# Altium schematic symbol library MyLib.SchLib: 47 symbols
Pins are listed as number, name and electrical type; pins without a type are passive.

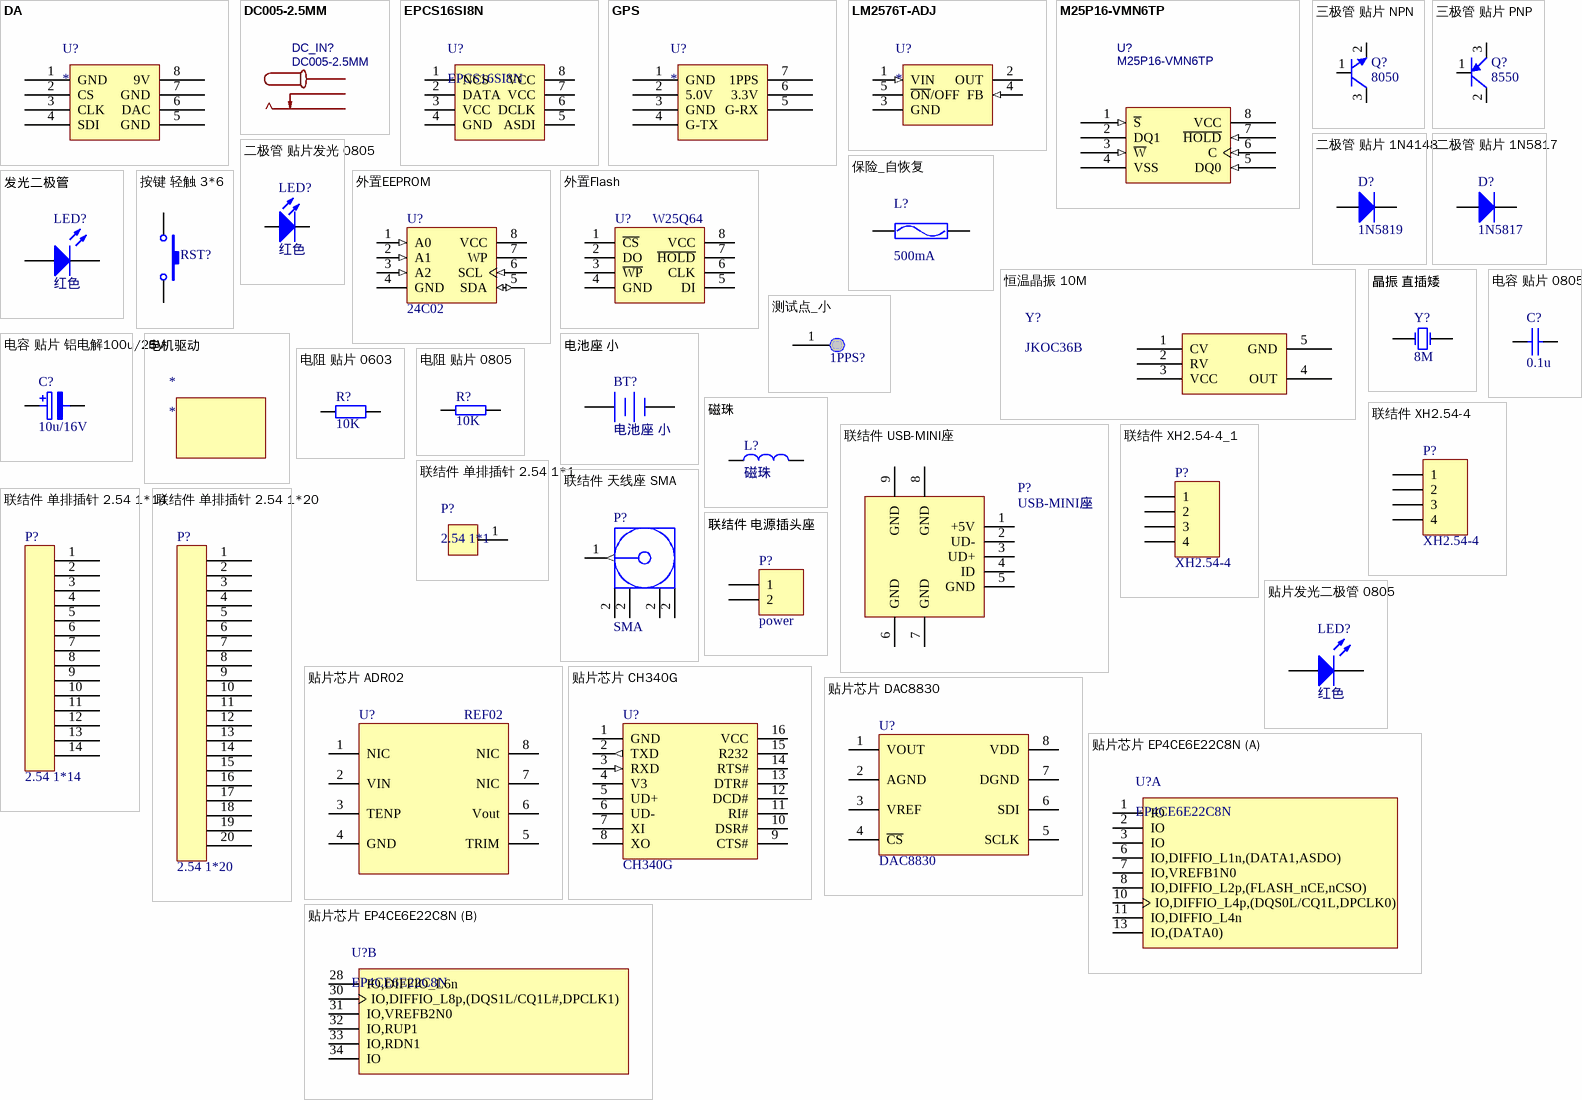
[diagram p0: symbols DA to 贴片芯片 EP4CE6E22C8N]

## DA
designator U?
footprint DA
pins: 1 GND, 2 CS, 3 CLK, 4 SDI, 5 GND, 6 DAC, 7 GND, 8 9V

## DC005-2.5MM
designator DC_IN?
BOM_Manufacturer: SOFNG(硕方); BOM_Manufacturer Part: DC005-T25; BOM_Supplier: LCSC; BOM_Supplier Part: C111573; BOM_JLCPCB Part Class: Extended Part; spicePre: D; spiceSymbolName: DC005-2.5MM
footprint DC005-2.5MM
pins: 1, 2, 3

## EPCS16SI8N
designator U?
footprint SOIC-8
pins: 1 NCS, 2 DATA, 3 VCC, 4 GND, 5 ASDI, 6 DCLK, 7 VCC, 8 VCC

## GPS
designator U?
footprint GPS
pins: 1 GND, 2 5.0V, 3 GND, 4 G-TX, 5 G-RX, 6 3.3V, 7 1PPS

## LM2576T-ADJ
designator U?
footprint TO-220
pins: 1 VIN (in), 2 OUT, 3 GND, 4 FB (in), 5 ~{ON}/OFF

## M25P16-VMN6TP
designator U?
BOM_Manufacturer: micron(镁光); Contributor: LCSC; BOM_Supplier: LCSC; BOM_Manufacturer Part: M25P16-VMN6TP; BOM_Supplier Part: C151067; BOM_JLCPCB Part Class: Extended Part; spicePre: U; spiceSymbolName: M25P16-VMN6TP
footprint SOIC-8
pins: 1 ~{S} (in), 2 DQ1, 3 ~{W} (in), 4 VSS, 5 DQ0 (in), 6 C (in), 7 ~{HOLD} (in), 8 VCC

## 三极管 贴片 NPN
designator Q?, comment 8050
NPN 8050; 名称: 贴片三极管; 封装: SOT23B; 单位: 个
footprint sot23b
pins: 1 B, 2 E, 3 C

## 三极管 贴片 PNP
designator Q?, comment 8550
PNP 8550; 名称: 贴片三极管; 封装: SOT23B; 单位: 个
footprint sot23b
pins: 1 B, 2 C, 3 E

## 二极管 贴片 1N4148
designator D?, comment 1N5819
名称: 贴片二极管; 封装: 贴片; 单位: 个
footprint 二极管 贴片 IN4148 (SMT LED; 2 Flat Leads)
pins: 1 A, 2 K
2 alternate drawings of the same symbol

## 二极管 贴片 1N5817
designator D?, comment 1N5817
名称: 贴片二极管; 封装: 贴片; 单位: 个
footprint 二极管 贴片 2010
pins: 1 A, 2 K
2 alternate drawings of the same symbol

## 二极管 贴片发光 0805
designator LED?, comment 红色
名称: 贴片发光二极管; 封装: 0805; 单位: 个
footprint LED0805 (Chip Capacitor; Body 2.0 x 1.2 mm (LxW typ))
pins: 1 A, 2 K

## 保险_自恢复
designator L?, comment 500mA
单位: 个; 封装: 0805; 名称: 自恢复保险管
footprint 0805
pins: 1, 2

## 发光二极管
designator LED?, comment 红色
D_RED_D; 名称: 发光二极管; 封装: Φ3; 单位: 个
footprint LED0805 (Chip Capacitor; Body 2.0 x 1.2 mm (LxW typ))
pins: 1 A, 2 K

## 外置EEPROM
designator U?, comment 24C02
BOM名称: 外置EEPROM; 版权归属: 源创客; 学习资源: www.ooocke.com
footprint SOIC8
footprint SOP8_N (5*6*1.8mm（长宽高）)
footprint SOP8_M (5*6*1.8mm（长宽高）)
footprint SSOP8_L (3*6.4*1.2mm（长宽高）)
footprint SSOP8_N (3*6.4*1.2mm（长宽高）)
footprint SSOP8_M (3*6.4*1.2mm（长宽高）)
pins: 1 A0 (in), 2 A1 (in), 3 A2 (in), 4 GND, 5 SDA (io), 6 SCL (in), 7 WP, 8 VCC (power)

## 外置Flash
designator U?, comment W25Q64
BOM名称: 外置Flash; 版权归属: 源创客; 学习资源: www.ooocke.com
footprint SOP8W_N (5.3*8.3*1.8mm（长宽高）)
footprint SO8-W
footprint SOP8W_M (5.3*8.3*1.8mm（长宽高）)
pins: 1 ~{CS}, 2 DO, 3 ~{WP}, 4 GND, 5 DI, 6 CLK, 7 ~{HOLD}, 8 VCC

## 恒温晶振 10M
designator Y?, comment JKOC36B
footprint 恒温晶振 10M
pins: 1 CV, 2 RV, 3 VCC, 4 OUT, 5 GND

## 按键 轻触 3*6
designator RST?, comment key  (value not drawn)
单位: 个; 名称: 开关; 封装: 直插 12*12*12
footprint 按键 轻触  6*3
pins: 1, 2

## 晶振 直插矮
designator Y?, comment 8M
名称: 晶振; 封装: 直插矮; 单位: 个
footprint 晶振 BCY-W2/E4.7 (Quartz Crystal, Thru-Hole; 2 Leads; Body 11.35 x 4.65 x 13.46 mm (LxWxH max))
pins: 1 OSC1, 2 OSC2

## 测试点_小
designator 1PPS?, comment TEST  (value not drawn)
单位: 个; 名称: 测试点; 封装: 直插
footprint 测试点（圆形）
pins: 1

## 电容 贴片 0805
designator C?, comment 0.1u
名称: 贴片电容; 封装: 0805; 单位: 个
footprint 0805
pins: 1, 2
2 alternate drawings of the same symbol

## 电容 贴片 铝电解100u/25V
designator C?, comment 10u/16V
名称: 贴片铝电解电容; 封装: 贴片; 单位: 个
footprint 1206
pins: 1, 2
2 alternate drawings of the same symbol

## 电机驱动
designator *

## 电池座 小
designator BT?
Published: 24-Mar-1999; LatestRevisionDate: 17-Jul-2002; LatestRevisionNote: Re-released for DXP Platform.; PackageReference: BAT-2; Publisher: Altium Limited
footprint 电池座 2032 贴片 BS-8
pins: 1 +, 2 -

## 电阻 贴片 0603
designator R?, comment 10K
名称: 贴片电阻; 封装: 0603; 单位: 个
footprint 0805
pins: 1, 2

## 电阻 贴片 0805
designator R?, comment 10K
名称: 贴片电阻; 封装: 0805; 单位: 个
footprint 0805
pins: 1, 2

## 磁珠
designator L?
封装: 0805; 单位: 个; 名称: 磁珠
footprint 0805
pins: 1, 2

## 联结件 USB-MINI座
designator P?, comment USB-MINI座
单位: 个; 封装: 440068; 名称: 联结件
footprint USB MINI DIP
pins: 1 +5V, 2 UD-, 3 UD+, 4 ID, 5 GND, 6 GND, 7 GND, 8 GND, 9 GND

## 联结件 XH2.54-4
designator P?, comment XH2.54-4
名称: 联结件; 单位: 套; 封装: XH2.54-4
footprint VH2.54_4
pins: 1, 2, 3, 4

## 联结件 XH2.54-4_1
designator P?, comment XH2.54-4
名称: 联结件; 单位: 套; 封装: XH2.54-4
footprint VH2.54_4
pins: 1, 2, 3, 4

## 联结件 单排插针 2.54 1*1
designator P?, comment 2.54 1*1
单位: 片; 封装: DIP; 名称: 单排插针
footprint 单排插针 2.54 1*1 (Connector; Header; 2 Position)
pins: 1

## 联结件 单排插针 2.54 1*14
designator P?, comment 2.54 1*14
单位: 片; 封装: DIP; 名称: 单排插针
footprint 单排插针 2.54 1*14
pins: 1, 2, 3, 4, 5, 6, 7, 8, 9, 10, 11, 12, 13, 14

## 联结件 单排插针 2.54 1*20
designator P?, comment 2.54 1*20
单位: 条; 封装: DIP; 名称: 单排插针
footprint 单排插针 2.54 1*20
pins: 1, 2, 3, 4, 5, 6, 7, 8, 9, 10, 11, 12, 13, 14, 15, 16, 17, 18, 19, 20

## 联结件 天线座 SMA
designator P?, comment SMA
单位: 个; 封装: 直插; 名称: 联接件
footprint 天线座 50ohm 侧卧
pins: 1 Signal (out) "Signal Pin", 2 (power), 2 (power), 2 (power), 2 (power)

## 联结件 电源插头座
designator P?, comment power
名称: 联结件; 封装: 电源插头座; 单位: 套
footprint VH2.54_2
pins: 1, 2

## 贴片发光二极管 0805
designator LED?, comment 红色
名称: 贴片发光二极管; 封装: 0805; 单位: 个
footprint LED5_单色
pins: 1 A, 2 K

## 贴片芯片 ADR02
designator U?, comment REF02
单位: 片; 封装: SOIC8; 名称: ADR02
footprint SOIC8
pins: 1 NIC, 2 VIN, 3 TENP, 4 GND, 5 TRIM, 6 Vout, 7 NIC, 8 NIC

## 贴片芯片 CH340G
designator U?, comment CH340G
单位: 片; 封装: SOIC16; 名称: 贴片芯片
footprint SOIC16 (Small Outline; 16 Leads; Body Width 3.9 mm; Pitch 1.27 mm)
pins: 1 GND, 2 TXD (out), 3 RXD (in), 4 V3, 5 UD+, 6 UD-, 7 XI, 8 XO, 9 CTS#, 10 DSR#, 11 RI#, 12 DCD#, 13 DTR#, 14 RTS#, 15 R232, 16 VCC

## 贴片芯片 DAC8830
designator U?, comment DAC8830
单位: 片; 封装: soic8; 名称: 贴片芯片
footprint soic8
pins: 1 VOUT, 2 AGND, 3 VREF, 4 ~{CS}, 5 SCLK, 6 SDI, 7 DGND, 8 VDD

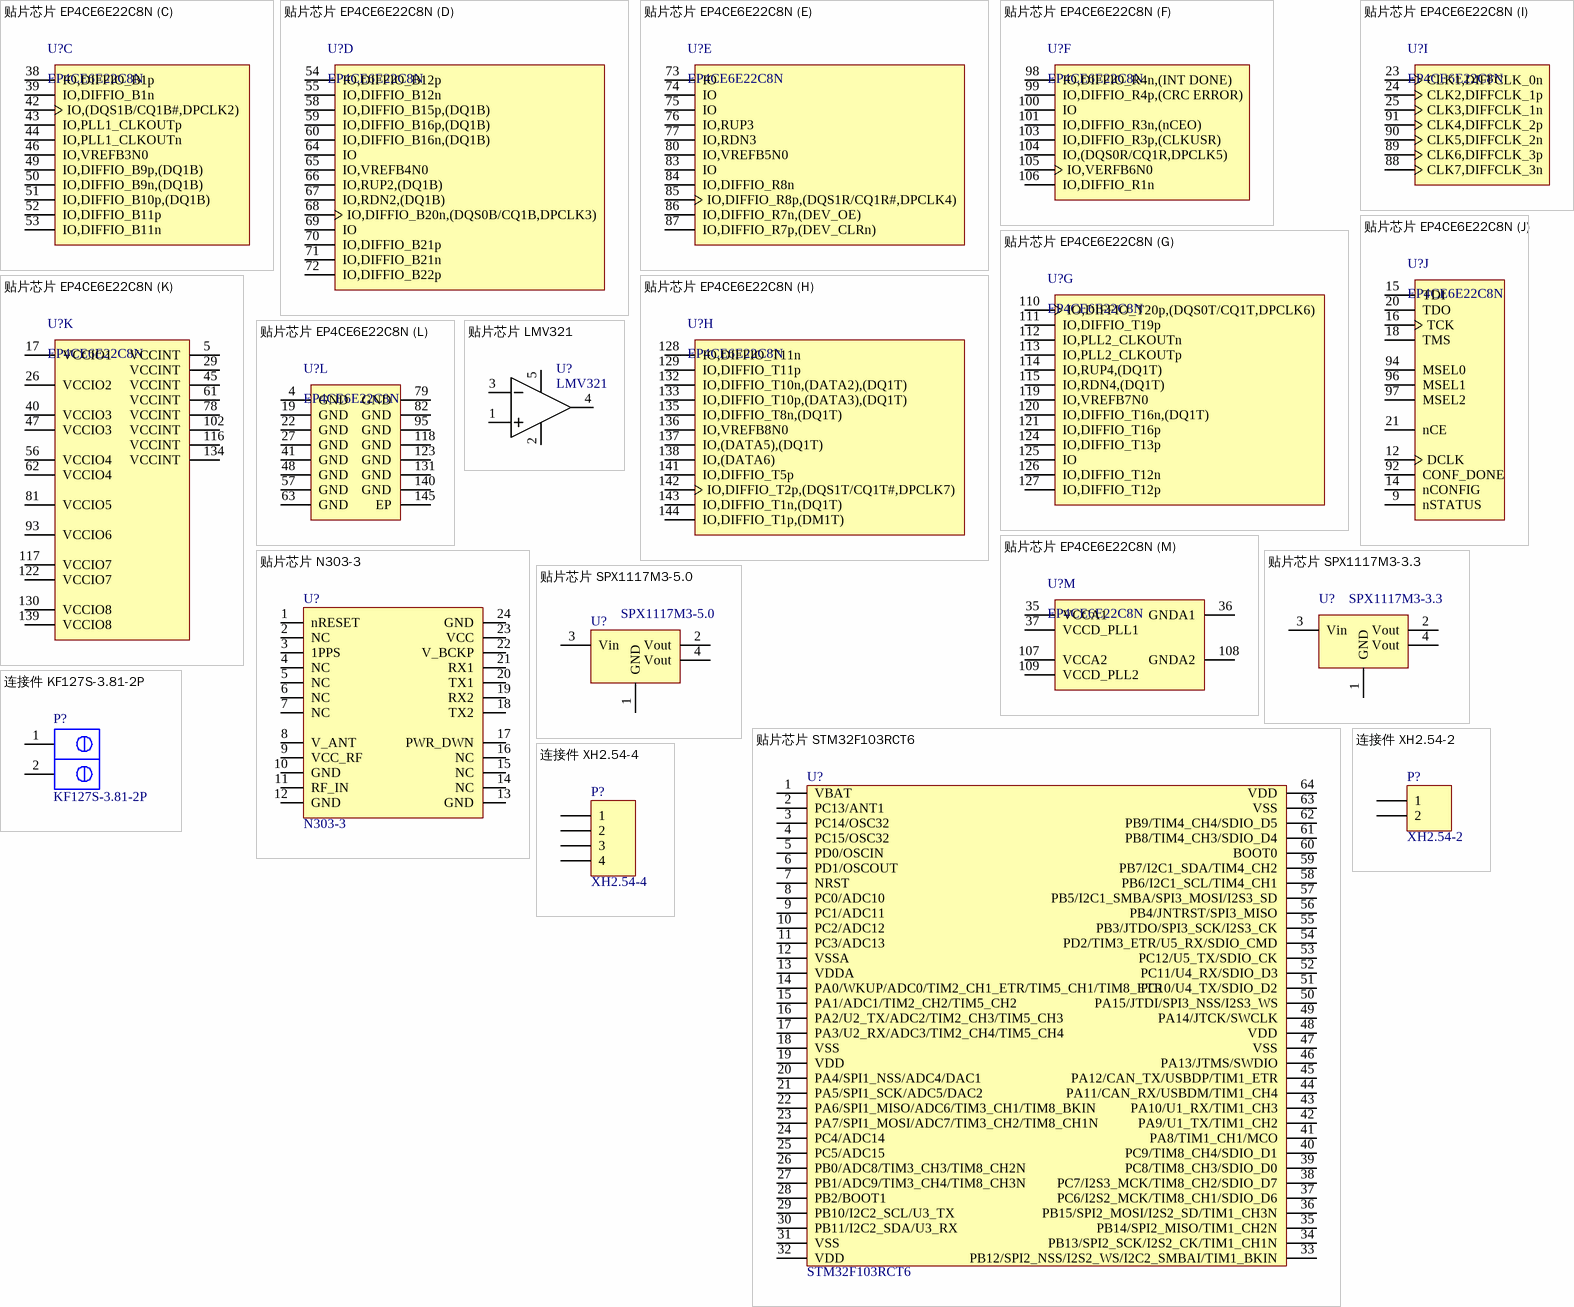
[diagram p1: symbols 贴片芯片 EP4CE6E22C8N to 连接件 XH2.54-4]

## 贴片芯片 EP4CE6E22C8N
designator U?, comment EP4CE6E22C8N
footprint EP4CE6E22C8N
part A pins: 1 IO, 2 IO, 3 IO, 6 IO,DIFFIO_L1n,(DATA1,ASDO), 7 IO,VREFB1N0, 8 IO,DIFFIO_L2p,(FLASH_nCE,nCSO), 10 IO,DIFFIO_L4p,(DQS0L/CQ1L,DPCLK0), 11 IO,DIFFIO_L4n, 13 IO,(DATA0)
part B pins: 28 IO,DIFFIO_L6n, 30 IO,DIFFIO_L8p,(DQS1L/CQ1L#,DPCLK1), 31 IO,VREFB2N0, 32 IO,RUP1, 33 IO,RDN1, 34 IO
part C pins: 38 IO,DIFFIO_B1p, 39 IO,DIFFIO_B1n, 42 IO,(DQS1B/CQ1B#,DPCLK2), 43 IO,PLL1_CLKOUTp, 44 IO,PLL1_CLKOUTn, 46 IO,VREFB3N0, 49 IO,DIFFIO_B9p,(DQ1B), 50 IO,DIFFIO_B9n,(DQ1B), 51 IO,DIFFIO_B10p,(DQ1B), 52 IO,DIFFIO_B11p, 53 IO,DIFFIO_B11n
part D pins: 54 IO,DIFFIO_B12p, 55 IO,DIFFIO_B12n, 58 IO,DIFFIO_B15p,(DQ1B), 59 IO,DIFFIO_B16p,(DQ1B), 60 IO,DIFFIO_B16n,(DQ1B), 64 IO, 65 IO,VREFB4N0, 66 IO,RUP2,(DQ1B), 67 IO,RDN2,(DQ1B), 68 IO,DIFFIO_B20n,(DQS0B/CQ1B,DPCLK3), 69 IO, 70 IO,DIFFIO_B21p, 71 IO,DIFFIO_B21n, 72 IO,DIFFIO_B22p
part E pins: 73 IO, 74 IO, 75 IO, 76 IO,RUP3, 77 IO,RDN3, 80 IO,VREFB5N0, 83 IO, 84 IO,DIFFIO_R8n, 85 IO,DIFFIO_R8p,(DQS1R/CQ1R#,DPCLK4), 86 IO,DIFFIO_R7n,(DEV_OE), 87 IO,DIFFIO_R7p,(DEV_CLRn)
part F pins: 98 IO,DIFFIO_R4n,(INT DONE), 99 IO,DIFFIO_R4p,(CRC ERROR), 100 IO, 101 IO,DIFFIO_R3n,(nCEO), 103 IO,DIFFIO_R3p,(CLKUSR), 104 IO,(DQS0R/CQ1R,DPCLK5), 105 IO,VERFB6N0, 106 IO,DIFFIO_R1n
part G pins: 110 IO,DIFFIO_T20p,(DQS0T/CQ1T,DPCLK6), 111 IO,DIFFIO_T19p, 112 IO,PLL2_CLKOUTn, 113 IO,PLL2_CLKOUTp, 114 IO,RUP4,(DQ1T), 115 IO,RDN4,(DQ1T), 119 IO,VREFB7N0, 120 IO,DIFFIO_T16n,(DQ1T), 121 IO,DIFFIO_T16p, 124 IO,DIFFIO_T13p, 125 IO, 126 IO,DIFFIO_T12n, 127 IO,DIFFIO_T12p
part H pins: 128 IO,DIFFIO_T11n, 129 IO,DIFFIO_T11p, 132 IO,DIFFIO_T10n,(DATA2),(DQ1T), 133 IO,DIFFIO_T10p,(DATA3),(DQ1T), 135 IO,DIFFIO_T8n,(DQ1T), 136 IO,VREFB8N0, 137 IO,(DATA5),(DQ1T), 138 IO,(DATA6), 141 IO,DIFFIO_T5p, 142 IO,DIFFIO_T2p,(DQS1T/CQ1T#,DPCLK7), 143 IO,DIFFIO_T1n,(DQ1T), 144 IO,DIFFIO_T1p,(DM1T)
part I pins: 23 CLK1,DIFFCLK_0n, 24 CLK2,DIFFCLK_1p, 25 CLK3,DIFFCLK_1n, 88 CLK7,DIFFCLK_3n, 89 CLK6,DIFFCLK_3p, 90 CLK5,DIFFCLK_2n, 91 CLK4,DIFFCLK_2p
part J pins: 9 nSTATUS, 12 DCLK, 14 nCONFIG, 15 TDI, 16 TCK, 18 TMS, 20 TDO, 21 nCE, 92 CONF_DONE, 94 MSEL0, 96 MSEL1, 97 MSEL2
part K pins: 5 VCCINT, 17 VCCIO1, 26 VCCIO2, 29 VCCINT, 40 VCCIO3, 45 VCCINT, 47 VCCIO3, 56 VCCIO4, 61 VCCINT, 62 VCCIO4, 78 VCCINT, 81 VCCIO5, 93 VCCIO6, 102 VCCINT, 116 VCCINT, 117 VCCIO7, 122 VCCIO7, 130 VCCIO8, 134 VCCINT, 139 VCCIO8
part L pins: 4 GND, 19 GND, 22 GND, 27 GND, 41 GND, 48 GND, 57 GND, 63 GND, 79 GND, 82 GND, 95 GND, 118 GND, 123 GND, 131 GND, 140 GND, 145 EP
part M pins: 35 VCCA1, 36 GNDA1, 37 VCCD_PLL1, 107 VCCA2, 108 GNDA2, 109 VCCD_PLL2

## 贴片芯片 LMV321
designator U?, comment LMV321
单位: 个; 封装: SOT23-5; 名称: 芯片
footprint SOT23-5
pins: 1 IN+, 2 GND, 3 IN-, 4 OUT, 5 VCC

## 贴片芯片 N303-3
designator U?, comment N303-3
单位: 个; 名称: 模块; 封装: 贴片
footprint 模块 N303-3
pins: 1 nRESET, 2 NC, 3 1PPS, 4 NC, 5 NC, 6 NC, 7 NC, 8 V_ANT, 9 VCC_RF, 10 GND, 11 RF_IN, 12 GND, 13 GND, 14 NC, 15 NC, 16 NC, 17 PWR_DWN, 18 TX2, 19 RX2, 20 TX1, 21 RX1, 22 V_BCKP, 23 VCC, 24 GND

## 贴片芯片 SPX1117M3-3.3
designator U?, comment SPX1117M3-3.3
LDO; 名称: 贴片芯片; 封装: SOT223; 单位: 个
footprint SOT223 (SOT-223/SC-73; 4 Leads; Body 6.7 x 7.3 mm, inc. leads (LxW max))
pins: 1 GND, 2 Vout, 3 Vin, 4 Vout

## 贴片芯片 SPX1117M3-5.0
designator U?, comment SPX1117M3-5.0
LDO; 名称: 贴片芯片; 封装: SOT223; 单位: 个
footprint SOT223 (SOT-223/SC-73; 4 Leads; Body 6.7 x 7.3 mm, inc. leads (LxW max))
pins: 1 GND, 2 Vout, 3 Vin, 4 Vout

## 贴片芯片 STM32F103RCT6
designator U?, comment STM32F103RCT6
名称: 芯片; 封装: LQFP64; 单位: 片
footprint LQFP64
pins: 1 VBAT, 2 PC13/ANT1, 3 PC14/OSC32, 4 PC15/OSC32, 5 PD0/OSCIN, 6 PD1/OSCOUT, 7 NRST, 8 PC0/ADC10, 9 PC1/ADC11, 10 PC2/ADC12, 11 PC3/ADC13, 12 VSSA, 13 VDDA, 14 PA0/WKUP/ADC0/TIM2_CH1_ETR/TIM5_CH1/TIM8_ETR, 15 PA1/ADC1/TIM2_CH2/TIM5_CH2, 16 PA2/U2_TX/ADC2/TIM2_CH3/TIM5_CH3, 17 PA3/U2_RX/ADC3/TIM2_CH4/TIM5_CH4, 18 VSS, 19 VDD, 20 PA4/SPI1_NSS/ADC4/DAC1, 21 PA5/SPI1_SCK/ADC5/DAC2, 22 PA6/SPI1_MISO/ADC6/TIM3_CH1/TIM8_BKIN, 23 PA7/SPI1_MOSI/ADC7/TIM3_CH2/TIM8_CH1N, 24 PC4/ADC14, 25 PC5/ADC15, 26 PB0/ADC8/TIM3_CH3/TIM8_CH2N, 27 PB1/ADC9/TIM3_CH4/TIM8_CH3N, 28 PB2/BOOT1, 29 PB10/I2C2_SCL/U3_TX, 30 PB11/I2C2_SDA/U3_RX, 31 VSS, 32 VDD, 33 PB12/SPI2_NSS/I2S2_WS/I2C2_SMBAI/TIM1_BKIN, 34 PB13/SPI2_SCK/I2S2_CK/TIM1_CH1N, 35 PB14/SPI2_MISO/TIM1_CH2N, 36 PB15/SPI2_MOSI/I2S2_SD/TIM1_CH3N, 37 PC6/I2S2_MCK/TIM8_CH1/SDIO_D6, 38 PC7/I2S3_MCK/TIM8_CH2/SDIO_D7, 39 PC8/TIM8_CH3/SDIO_D0, 40 PC9/TIM8_CH4/SDIO_D1, 41 PA8/TIM1_CH1/MCO, 42 PA9/U1_TX/TIM1_CH2, 43 PA10/U1_RX/TIM1_CH3, 44 PA11/CAN_RX/USBDM/TIM1_CH4, 45 PA12/CAN_TX/USBDP/TIM1_ETR, 46 PA13/JTMS/SWDIO, 47 VSS, 48 VDD, 49 PA14/JTCK/SWCLK, 50 PA15/JTDI/SPI3_NSS/I2S3_WS, 51 PC10/U4_TX/SDIO_D2, 52 PC11/U4_RX/SDIO_D3, 53 PC12/U5_TX/SDIO_CK, 54 PD2/TIM3_ETR/U5_RX/SDIO_CMD, 55 PB3/JTDO/SPI3_SCK/I2S3_CK, 56 PB4/JNTRST/SPI3_MISO, 57 PB5/I2C1_SMBA/SPI3_MOSI/I2S3_SD, 58 PB6/I2C1_SCL/TIM4_CH1, 59 PB7/I2C1_SDA/TIM4_CH2, 60 BOOT0, 61 PB8/TIM4_CH3/SDIO_D4, 62 PB9/TIM4_CH4/SDIO_D5, 63 VSS, 64 VDD

## 连接件 KF127S-3.81-2P
designator P?, comment KF127S-3.81-2P
名称: 连接件; 单位: 套; 封装: KF127S-3.81-2p
footprint KF127S-3.81-2P
pins: 1, 2

## 连接件 XH2.54-2
designator P?, comment XH2.54-2
名称: 连接件; 封装: VH3.96-2; 单位: 套
footprint VH2.54_2
pins: 1, 2

## 连接件 XH2.54-4
designator P?, comment XH2.54-4
名称: 连接件; 单位: 套; 封装: XH2.54-4
footprint VH2.54_4
pins: 1, 2, 3, 4